# EAGLE library part 7461383 (library 7461383)
REDCUBE PRESS-FIT with external thread and full plain pin-plate WPSHFU Source: Datasheet <https://www.we-online.com/catalog/datasheet/7461383.pdf>
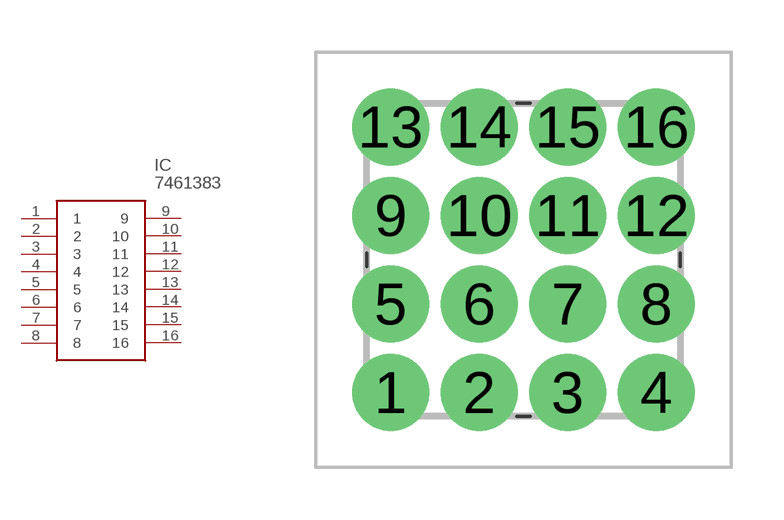
[diagram p0: symbol with the pads of 7461383; footprint 7461383]

Designator prefix IC

## 7461383 (Description: REDCUBE PRESS-FIT with external thread and full plain pin-plate WPSHFU; Height: 12.5mm; Manufacturer_Name: Wurth Elektronik; Manufacturer_Part_Number: 7461383; Mouser_Part_Number: 710-7461383; Mouser_Price-Stock: https://www.mouser.co.uk/ProductDetail/Wurth-Elektronik/7461383?qs=lykWx4dhCCFZ0JBsRfYENw%3D%3D)  [7461383]
1  1
2  2
3  3
4  4
5  5
6  6
7  7
8  8
9  9
10  10
11  11
12  12
13  13
14  14
15  15
16  16

## Footprint 7461383 (pad centres in mm)
WE 7461383-3
drill 1.475 pad 2.2: 1 0,0; 2 2.54,0; 3 5.08,0; 4 7.62,0; 5 0,2.54; 6 2.54,2.54; 7 5.08,2.54; 8 7.62,2.54; 9 0,5.08; 10 2.54,5.08; 11 5.08,5.08; 12 7.62,5.08; 13 0,7.62; 14 2.54,7.62; 15 5.08,7.62; 16 7.62,7.62